# Altium footprint library hdmi connectors.PcbLib: 1 footprints
Each footprint in its own frame and in the unit in brackets; x right, y up, seen from the top. Pads: shape width x height; smd on the part's side, far side on the other; paste and mask are expansions set on the pad; w line width, h text height; cw(c..) or ccw(c..) is an arc to the next point about the centre after c.
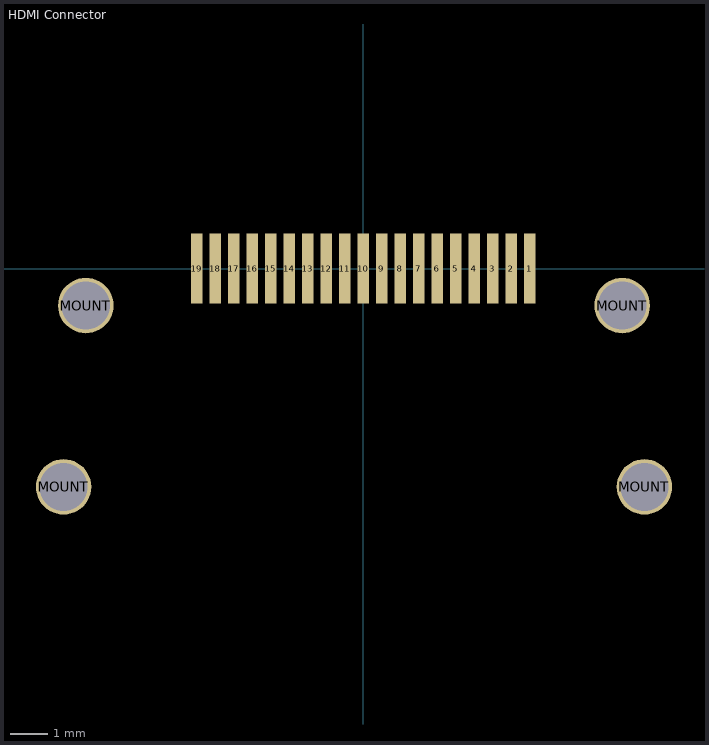
[diagram p0: the footprint, top view; thin cyan lines are the x and y axes]

## HDMI Connector [mm] "Amphenol HDMI Connector"
height 6.3
pads (23):
  rect 0.3x1.9 smd: 1(4.5,0) 2(4,0) 3(3.5,0) 4(3,0) 5(2.5,0) 6(2,0) 7(1.5,0) 8(1,0) 9(0.5,0) 10(0,0) 11(-0.5,0) 12(-1,0) 13(-1.5,0) 14(-2,0) 15(-2.5,0) 16(-3,0) 17(-3.5,0) 18(-4,0) 19(-4.5,0)
  round 1.5 hole 1.3: MOUNT(-8.1,-5.9) MOUNT(-7.5,-1) MOUNT(7,-1) MOUNT(7.6,-5.9)
3D body: height 6.08, standoff -1.92, extent -8.35,-9.5 7.85,0.4